# Altium integrated library WP7113SEC_J3.IntLib: 1 symbol
Pins are listed as number, name and electrical type; pins without a type are passive.

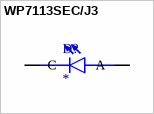
[diagram p0: symbol WP7113SEC/J3]

## WP7113SEC/J3
designator D?
Red 625nm LED Indication - Discrete 2.2V Radial; MF: Kingbright; MP: WP7113SEC/J3; SnapEDA_Link: https://www.snapeda.com/parts/WP7113SEC/J3/Kingbright/view-part/?ref=snap; Package: Radial Kingbright; Value: *; Check_prices: https://www.snapeda.com/parts/WP7113SEC/J3/Kingbright/view-part/?ref=eda
footprint LED_WP7113SEC/J3
pins: A, C